# EAGLE library part UART_6 (library serialcouple)
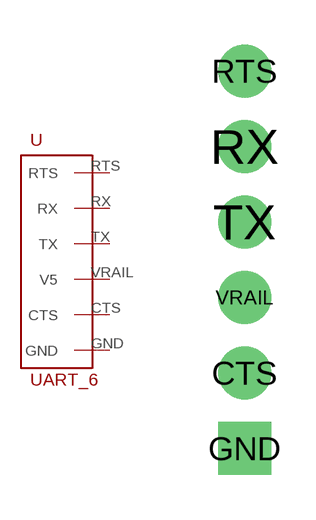
[diagram p1: symbol with the pads of 6XR1; footprint 6XR1]

Designator prefix -

## UART_6SIP  [6XR1]
CTS  CTS
GND  GND
RTS  RTS
RX  RX
TX  TX
VRAIL  V5

## Footprint 6XR1 (pad centres in mm)
drill 1 pad 1.778 round: CTS 0,-10.16; RTS 0,0; RX 0,-2.54; TX 0,-5.08; VRAIL 0,-7.62
drill 1 pad 1.778 square: GND 0,-12.7